# EAGLE library part MM74HC00 (library 6502-shield)
MM74HC00 Quad 2-Input NAND Gate 2V - 6V 8ns
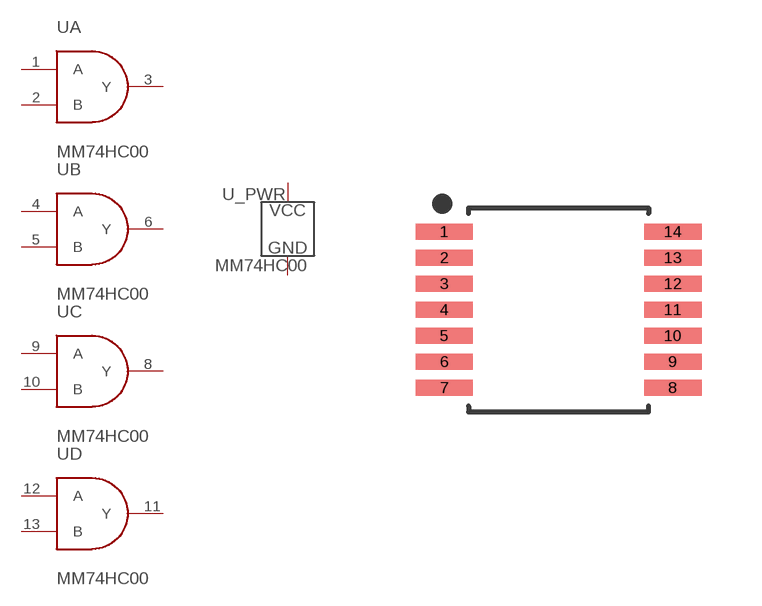
[diagram p8: symbol with the pads of SOP65P635X120-14N; footprint SOP65P635X120-14N]

Designator prefix U; gates A=MM74HC00 B=MM74HC00 C=MM74HC00 D=MM74HC00 _PWR=IC-PWR

## MM74HC00TSSOP  [SOP65P635X120-14N]
1  A:A
2  A:B
3  A:Y
4  B:A
5  B:B
6  B:Y
7  _PWR:GND
8  C:Y
9  C:A
10  C:B
11  D:Y
12  D:A
13  D:B
14  _PWR:VCC

## Footprint SOP65P635X120-14N (pad centres in mm)
14-SOP, 0.65 mm pitch, 6.35 mm span, 5.00 X 4.40 X 1.20 mm body 14-pin SOP package with 0.65 mm pitch, 6.35 mm span with body size 5.00 X 4.40 X 1.20 mm
smd 1.435 x 0.407: 1 -2.857,1.95; 2 -2.857,1.3; 3 -2.857,0.65; 4 -2.857,0; 5 -2.857,-0.65; 6 -2.857,-1.3; 7 -2.857,-1.95; 8 2.857,-1.95; 9 2.857,-1.3; 10 2.857,-0.65; 11 2.857,0; 12 2.857,0.65; 13 2.857,1.3; 14 2.857,1.95